# Altium schematic symbol library 105133-0001.SchLib: 1 symbol
Pins are listed as number, name and electrical type; pins without a type are passive.

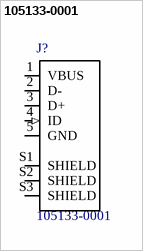
[diagram p0: symbol 105133-0001]

## 105133-0001
designator J?
/ Conn Micro USB Type B RCP 5 POS 0.65mm Solder RA SMD 5 Terminal 1 Port T/R /; MF: Molex; MP: 1051330001; Package: None; Availability: Unavailable; SnapEDA_Link: https://www.snapeda.com/parts/1051330001/Molex/view-part/?ref=snap; Price: None; Value: *
footprint *MOLEX_105133-0001_105133-0001(Primary)
pins: 1 VBUS (power), 2 D- (io), 3 D+ (io), 4 ID (in), 5 GND (power), S1 SHIELD, S2 SHIELD, S3 SHIELD